# EAGLE library part ADP1720ARMZ-R7 (library ICs)
50 mA, High Voltage, Micropower Linear Regulator
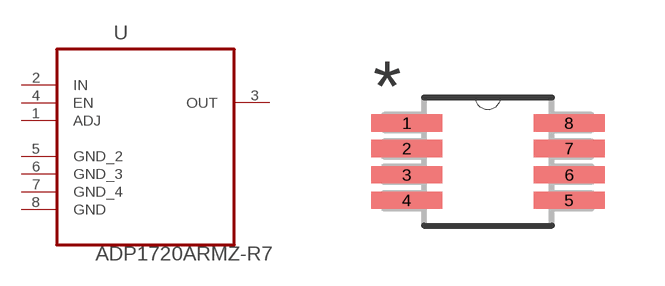
[diagram p8: symbol with the pads of SOP65P490X110-8N; footprint SOP65P490X110-8N]

Designator prefix U

## ADP1720ARMZ-R7 (MPN: ADP1720ARMZ-R7; OC_FARNELL: 2094213; OC_NEWARK: 91T4776; PACKAGE: MSOP-8; SUPPLIER: Analog Devices)  [SOP65P490X110-8N]
1  ADJ  pas
2  IN  pas
3  OUT  pas
4  EN  pas
5  GND_2  pas
6  GND_3  pas
7  GND_4  pas
8  GND  pas

## Footprint SOP65P490X110-8N (pad centres in mm)
smd 1.778 x 0.432: 1 -2.032,0.965; 2 -2.032,0.33; 3 -2.032,-0.33; 4 -2.032,-0.965; 5 2.032,-0.965; 6 2.032,-0.33; 7 2.032,0.33; 8 2.032,0.965